# Altium footprint library DIOM7959X265N.PcbLib: 1 footprints
Each footprint in its own frame and in the unit in brackets; x right, y up, seen from the top. Pads: shape width x height; smd on the part's side, far side on the other; paste and mask are expansions set on the pad; w line width, h text height; cw(c..) or ccw(c..) is an arc to the next point about the centre after c.
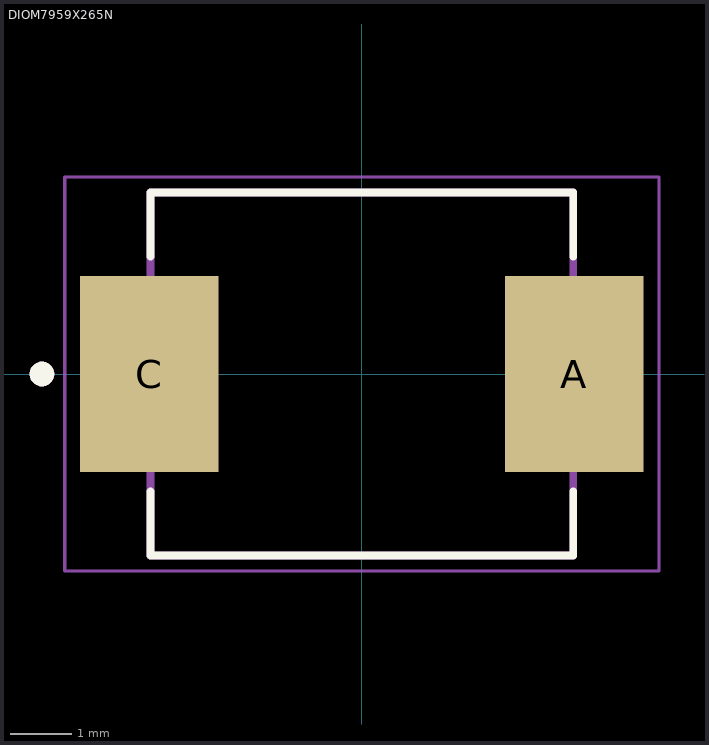
[diagram p0: the footprint, top view; thin cyan lines are the x and y axes]

## DIOM7959X265N [mm]
height 2.65
pads (2):
  rect 2.25x3.18 smd: A(3.455,0) C(-3.455,0)
Top Overlay:
  circle w0.2: c-5.2,0 r0.1
  lines w0.127: -3.437,-1.91 -3.437,-2.95 3.437,-2.95 3.437,-1.91 ; -3.437,1.91 -3.437,2.95 3.437,2.95 3.437,1.91
Mechanical 13:
  circle w0.2: c-5.2,0 r0.1
  lines w0.127: -3.437,-2.95 3.437,-2.95 3.437,2.95 -3.437,2.95 -3.437,-2.95
Mechanical 15:
  lines w0.05: -4.83,-3.2 -4.83,3.2 4.83,3.2 4.83,-3.2 -4.83,-3.2
3D body "step_temp.STEP": height 1.2, standoff -1.41, extent -3.975,-2.95 3.975,2.95